# EAGLE library part KXN_PORT_1X6 (library MakerShop)
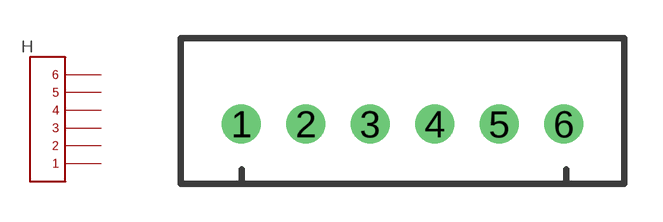
[diagram p4: symbol with the pads of KXN_PORT_1X6; footprint KXN_PORT_1X6]

Designator prefix H

## KXN_PORT_1X6PORT_1X6_MASTER  [KXN_PORT_1X6]
1  P$1
2  P$2
3  P$3
4  P$4
5  P$5
6  P$6

## KXN_PORT_1X6PORT_1X6_SLAVE  [KXN_PORT_1X6]
1  P$6
2  P$5
3  P$4
4  P$3
5  P$2
6  P$1

## Footprint KXN_PORT_1X6 (pad centres in mm)
drill 1.016: 1 -6.35,0; 2 -3.81,0; 3 -1.27,0; 4 1.27,0; 5 3.81,0; 6 6.35,0